# Altium footprint library Diodes.PcbLib: 1 footprints
Each footprint in its own frame and in the unit in brackets; x right, y up, seen from the top. Pads: shape width x height; smd on the part's side, far side on the other; paste and mask are expansions set on the pad; w line width, h text height; cw(c..) or ccw(c..) is an arc to the next point about the centre after c.
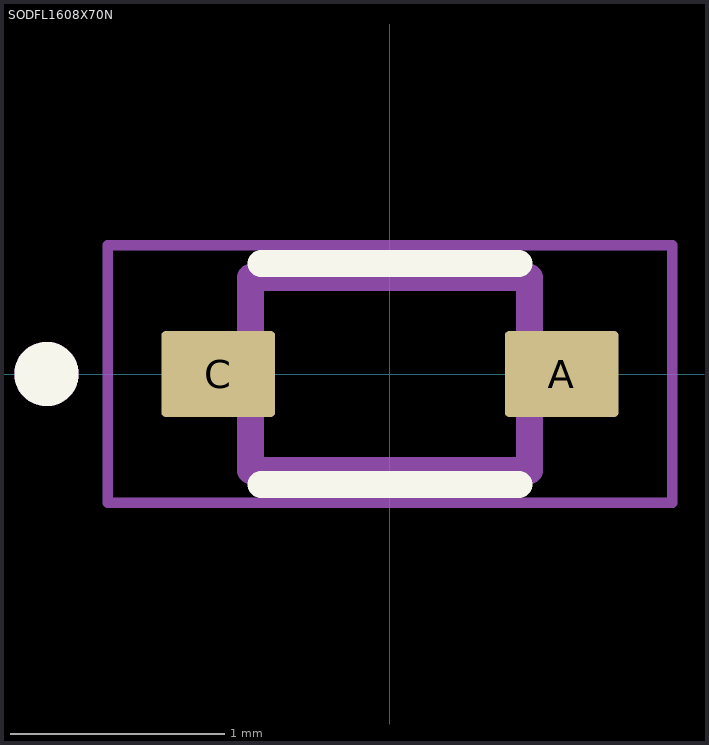
[diagram p0: the footprint, top view; thin cyan lines are the x and y axes]

## SODFL1608X70N [mm]
pads (2):
  rrect10% 0.53x0.4 smd: A(0.8,0) C(-0.8,0)
Top Overlay:
  circle w0.2: c-1.6,0 r0.05
  lines w0.127: -0.6,-0.515 0.6,-0.515 ; -0.6,0.515 0.6,0.515
Mechanical 13:
  circle w0.2: c-1.6,0 r0.05
  lines w0.127: -0.65,-0.45 -0.65,0.45 0.65,0.45 0.65,-0.45 -0.65,-0.45
Mechanical 15:
  lines w0.05: -1.315,-0.6 1.315,-0.6 1.315,0.6 -1.315,0.6 -1.315,-0.6
3D body "step_temp.STEP": height 0.7, standoff 0, extent -0.8,-0.4 0.8,0.4